# Altium footprint library MOLEX-08_90M.PcbLib: 1 footprints
Each footprint in its own frame and in the unit in brackets; x right, y up, seen from the top. Pads: shape width x height; smd on the part's side, far side on the other; paste and mask are expansions set on the pad; w line width, h text height; cw(c..) or ccw(c..) is an arc to the next point about the centre after c.
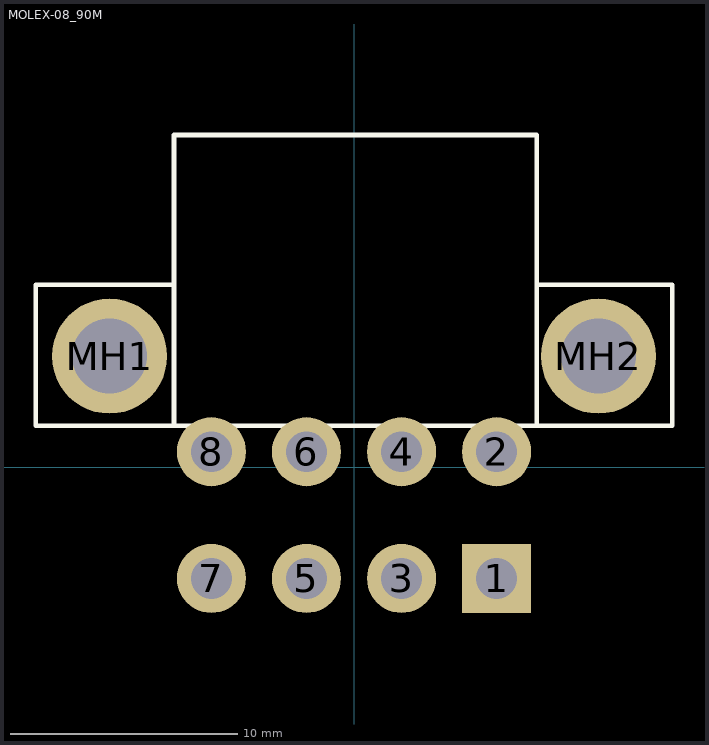
[diagram p0: the footprint, top view; thin cyan lines are the x and y axes]

## MOLEX-08_90M [mil]
pads (10):
  rect 120x120 hole 71: 1(247.5,-193)
  round 120 hole 71: 2(247.5,27) 3(82.5,-193) 4(82.5,27) 5(-82.5,-193) 6(-82.5,27) 7(-247.5,-193) 8(-247.5,27)
  round 200 hole 130: MH1(-424.5,193) MH2(424.5,193)
TopOverlay:
  lines w8: -312.5,72 -312.5,577 317.5,577 317.5,72 ; -312.5,317 -552.5,317 -552.5,72 552.5,72 552.5,317 317.5,317